# EAGLE library part 219-4MST (library 219-4MST)
DIP Switches / SIP Switches Source: Datasheet <https://componentsearchengine.com/Datasheets/1/219-4MST.pdf>
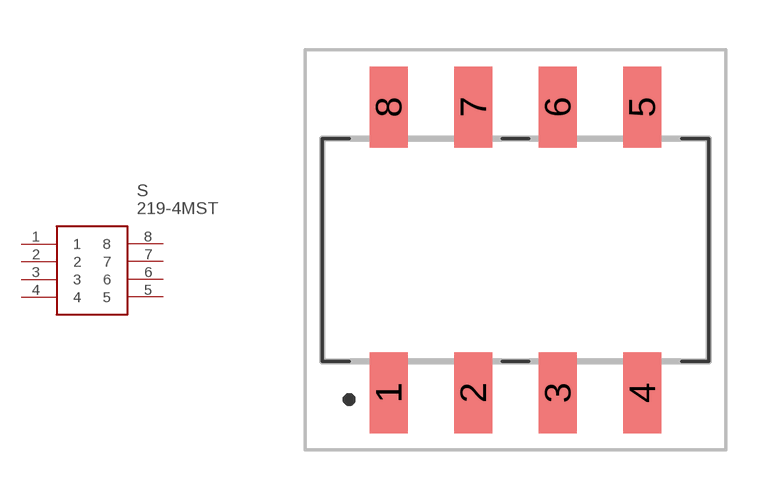
[diagram p0: symbol with the pads of 2194MST; footprint 2194MST]

Designator prefix S

## 219-4MST (Description: DIP Switches / SIP Switches; Height: 4.3mm; Manufacturer_Name: CTS; Manufacturer_Part_Number: 219-4MST; Mouser_Part_Number: 774-2194MST; Mouser_Price-Stock: https://www.mouser.co.uk/ProductDetail/CTS-Electronic-Components/219-4MST?qs=qNzHFtQhdJ8xGV2Z9mul9A%3D%3D)  [2194MST]
1  1
2  2
3  3
4  4
5  5
6  6
7  7
8  8

## Footprint 2194MST (pad centres in mm)
219-4MST-1
smd 1.13 x 2.44: 1 -3.81,-4.3; 2 -1.27,-4.3; 3 1.27,-4.3; 4 3.81,-4.3; 5 3.81,4.3; 6 1.27,4.3; 7 -1.27,4.3; 8 -3.81,4.3